# Altium schematic symbol library MotionDetectorSchematicLib.SchLib: 10 symbols
Pins are listed as number, name and electrical type; pins without a type are passive.

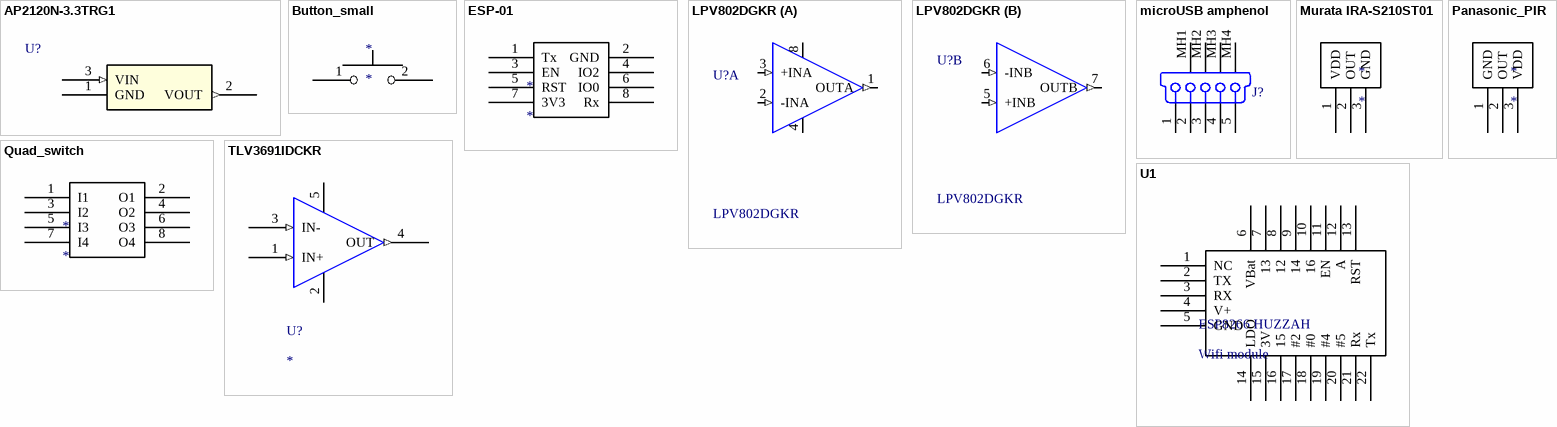
[diagram p0: symbols AP2120N-3.3TRG1 to U1]

## AP2120N-3.3TRG1
designator U?, comment Voltage Reg  (value not drawn)
Manufacturer_Part_Number: AP2120N-3.3TRG1; Vendor: Diodes Inc; Built_By: EMA_UL_Team; RefDes: RefDes; Type: DEV; Value: Value
footprint SOT-23
pins: 1 GND (power), 2 VOUT (out), 3 VIN (in)

## Button_small
designator *
pins: 1, 2

## ESP-01
designator *
footprint ESP-01
pins: 1 Tx, 2 GND, 3 EN, 4 IO2, 5 RST, 6 IO0, 7 3V3, 8 Rx

## LPV802DGKR
designator U?
Dual Channel 320nA Nanopower Operational Amplifier 8-VSSOP -40 to 125; MF: Texas Instruments; Package: MSOP-8 Texas Instruments; Digi-Key_Purchase_URL: https://www.digikey.ca/product-detail/en/texas-instruments/LPV802DGKR/296-47341-1-ND/7688351?utm_source=snapeda&utm_medium=aggregator&utm_campaign=symbol; Digi-Key_Part_Number: 296-47341-1-ND; SnapEDA_Link: https://www.snapeda.com/parts/LPV802DGKR/Texas%20Instruments/view-part/?ref=snap; MP: LPV802DGKR; Value: *
footprint SOP65P490X110-8N
part A pins: 1 OUTA (out), 2 -INA (in), 3 +INA (in), 4 V- (power), 8 V+ (power)
part B pins: 5 +INB (in), 6 -INB (in), 7 OUTB (out)

## microUSB amphenol
designator J?
USB On-The-Go (OTG) Mini-B Receptacle, Right Angle, SMT, 0.80mm (.031") Pitch, Solder Tabs with Back Cover, Recessed Type; PCB_Layout: Complies with Manufacturer's Recommendation.; Published: 21-Sep-2007; DatasheetVersion: revA, May-2004; PackageVersion: May-2004; PackageReference: 481900001; Publisher: Altium Limited; PackageDescription: USB Mini-B, Sinking Type, SM; 5 Position; Right Angle, Body 11.45 x 11.8 x 3.9 mm (LxWxH); ComponentLink1Description: Manufacturer Link; ComponentLink1URL: http://www.molex.com/; ComponentLink2Description: Datasheet; ComponentLink2URL: http://www.molex.com/cmc_upload/0/000/895/958/SD-48190-001RevA.pdf
footprint mUSB connector (Connector; USB Mini-B, Sinking Type, SM; 5 Position; Right Angle)
signal-integrity model USB Mini-B
pins: 1 V BUS (5V) "USB Vcc [Red]", 2 D- "USB Data - [White]", 3 D+ "USB Data + [Green]", 4 NC "Not Connected (or joined to pin 5 via resistor)", 5 GND "Ground [Black]", MH1 Tab "Shell", MH2 Tab "Shell", MH3 Tab "Shell", MH4 Tab "Shell"

## Murata IRA-S210ST01
designator *
footprint Murata IRA-S210ST01
pins: 1 VDD, 2 OUT, 3 GND

## Panasonic_PIR
designator *
footprint Panasonic_PIR
pins: 1 GND, 2 OUT, 3 VDD

## Quad_switch
designator *
pins: 1 I1, 2 O1, 3 I2, 4 O2, 5 I3, 6 O3, 7 I4, 8 O4

## TLV3691IDCKR
designator U?
Comparator; Manufacturer_Part_Number: TLV3691IDCKR; Vendor: Texas Instruments; Built_By: EMA_UL_Team; C: Copyright (C) 2016 Accelerated Designs. All rights reserved; RefDes: RefDes; Type: DEV; Value: Value
footprint DCK5-M
pins: 1 IN+ (in), 2 GND (power), 3 IN- (in), 4 OUT (out), 5 VCC (power)

## U1
designator ESP8266 HUZZAH, comment Wifi module
footprint ESP8266 HUZZAH - duplicate
pins: 1 NC, 2 TX, 3 RX, 4 V+, 5 GND, 6 VBat, 7 13, 8 12, 9 14, 10 16, 11 EN, 12 A, 13 RST, 14 LDO, 15 3V, 16 15, 17 #2, 18 #0, 19 #4, 20 #5, 21 Rx, 22 Tx